# EAGLE library part 201646-014 (library con-molex-spoton)
HEADER
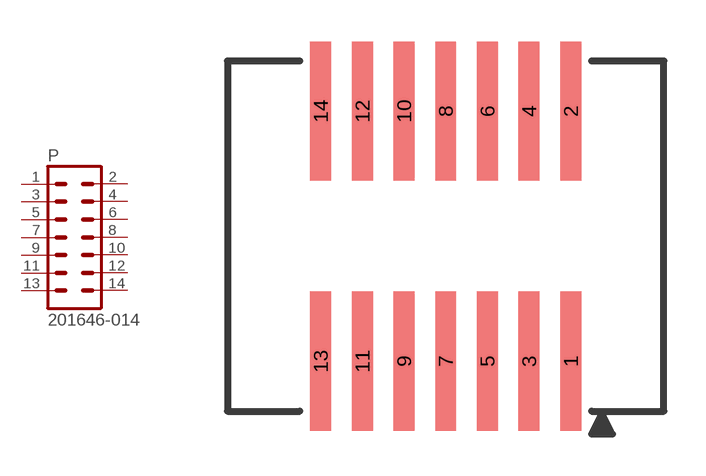
[diagram p3: symbol with the pads of 201646-014; footprint 201646-014]

Designator prefix P

## 201646-014  [201646-014]
1  1  pas
2  2  pas
3  3  pas
4  4  pas
5  5  pas
6  6  pas
7  7  pas
8  8  pas
9  9  pas
10  10  pas
11  11  pas
12  12  pas
13  13  pas
14  14  pas

## Footprint 201646-014 (pad centres in mm)
HEADER
smd 0.75 x 5: 1 4.5,-4.5; 2 4.5,4.5; 3 3,-4.5; 4 3,4.5; 5 1.5,-4.5; 6 1.5,4.5; 7 0,-4.5; 8 0,4.5; 9 -1.5,-4.5; 10 -1.5,4.5; 11 -3,-4.5; 12 -3,4.5; 13 -4.5,-4.5; 14 -4.5,4.5